# Altium integrated library 电磁阀V4.0_Project.IntLib: 65 symbols
Pins are listed as number, name and electrical type; pins without a type are passive.

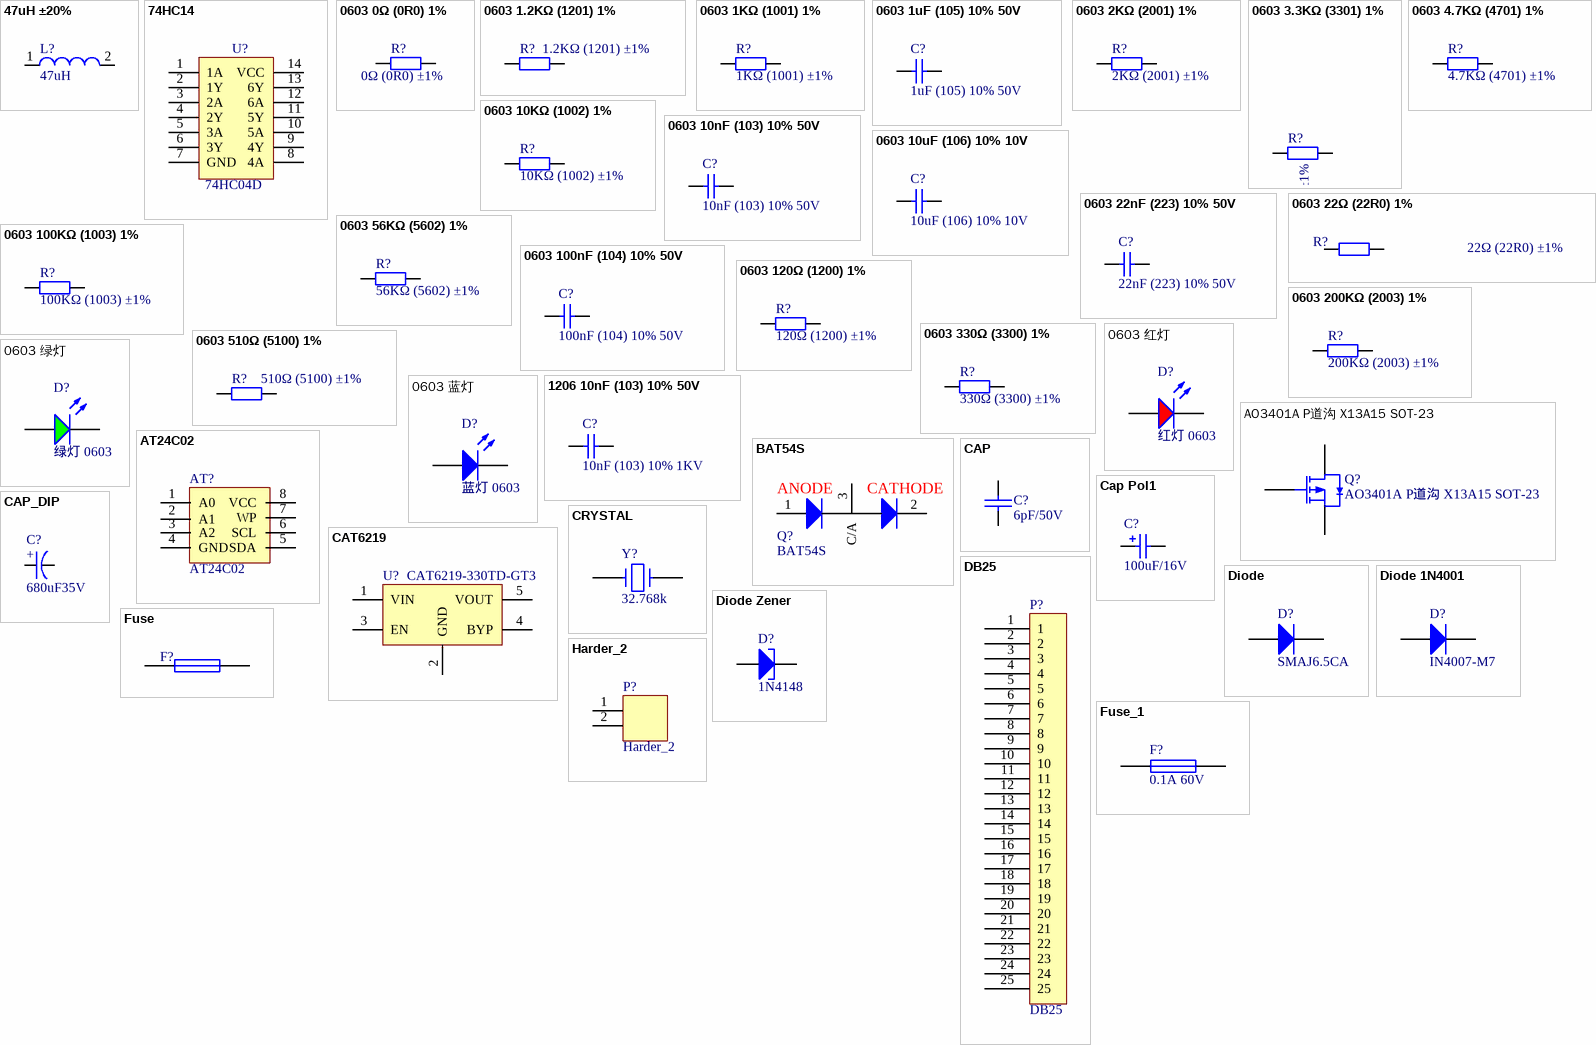
[diagram p0: symbols 47uH ±20% to Harder_2]

## 47uH ±20%
designator L?  value 47uH  (hidden comment: 47uH ±20%)
4R7功率电感; Code_IEC: 1005; Published: 8-Jun-2000; LatestRevisionDate: 29-May-2009; LatestRevisionNote: IPC-7351 Footprint Added.; PackageReference: 0402-A; Publisher: Altium Limited; PackageDescription: Chip Inductor; Code_JEITA: 0402
footprint SMD,13.8x12.6x7mm
pins: 1, 2

## 74HC14
designator U?, comment 74HC04D
6路施密特触发反相器; LatestRevisionDate: 17-Jul-2002; LatestRevisionNote: Re-released for DXP Platform.; Publisher: Altium Limited
footprint SOIC-14_150mil
pins: 1 1A, 2 1Y, 3 2A, 4 2Y, 5 3A, 6 3Y, 7 GND, 8 4A, 9 4Y, 10 5A, 11 5Y, 12 6A, 13 6Y, 14 VCC

## 0603 0Ω (0R0) 1%
designator R?, comment 0Ω (0R0) ±1%
贴片电阻; ComponentLink1Description: 供应商链接; ComponentLink1URL: http://www.szlcsc.com/product/details_21903.html; Package: 0603; Supplier: LC; SuppliersPartNumber: C21189
footprint LC-0603_R
pins: 1, 2

## 0603 1.2KΩ (1201) 1%
designator R?, comment 1.2KΩ (1201) ±1%
贴片电阻; ComponentLink1Description: 供应商链接; ComponentLink1URL: http://www.szlcsc.com/product/details_23492.html; Package: 0603; Supplier: LC; SuppliersPartNumber: C22765
footprint LC-0603_R
pins: 1, 2

## 0603 1KΩ (1001) 1%
designator R?, comment 1KΩ (1001) ±1%
贴片电阻; ComponentLink1Description: 供应商链接; ComponentLink1URL: http://www.szlcsc.com/product/details_21904.html; Package: 0603; Supplier: LC; SuppliersPartNumber: C21190
footprint LC-0603_R
pins: 1, 2

## 0603 1uF (105) 10% 50V
designator C?, comment 1uF (105) 10% 50V
贴片电容; ComponentLink1Description: 供应商链接; ComponentLink1URL: http://www.szlcsc.com/product/details_16531.html; Package: 0603; Supplier: LC; SuppliersPartNumber: C15849
footprint LC-0603_C
pins: 1, 2

## 0603 2KΩ (2001) 1%
designator R?, comment 2KΩ (2001) ±1%
贴片电阻; ComponentLink1Description: 供应商链接; ComponentLink1URL: http://www.szlcsc.com/product/details_23702.html; Package: 0603; Supplier: LC; SuppliersPartNumber: C22975
footprint LC-0603_R
pins: 1, 2

## 0603 3.3KΩ (3301) 1%
designator R?, comment 3.3KΩ (3301) ±1%
贴片电阻; ComponentLink1Description: 供应商链接; ComponentLink1URL: http://www.szlcsc.com/product/details_23705.html; Package: 0603; Supplier: LC; SuppliersPartNumber: C22978
footprint LC-0603_R
pins: 1, 2

## 0603 4.7KΩ (4701) 1%
designator R?, comment 4.7KΩ (4701) ±1%
贴片电阻; ComponentLink1Description: 供应商链接; ComponentLink1URL: http://www.szlcsc.com/product/details_23889.html; Package: 0603; Supplier: LC; SuppliersPartNumber: C23162
footprint LC-0603_R
pins: 1, 2

## 0603 10KΩ (1002) 1%
designator R?, comment 10KΩ (1002) ±1%
贴片电阻; ComponentLink1Description: 供应商链接; ComponentLink1URL: http://www.szlcsc.com/product/details_26547.html; Package: 0603; Supplier: LC; SuppliersPartNumber: C25804
footprint LC-0603_R
pins: 1, 2

## 0603 10nF (103) 10% 50V
designator C?, comment 10nF (103) 10% 50V
贴片电容; ComponentLink1Description: 供应商链接; ComponentLink1URL: http://www.szlcsc.com/product/details_58143.html; Package: 0603; Supplier: LC; SuppliersPartNumber: C57112
footprint LC-0603_C
pins: 1, 2

## 0603 10uF (106) 10% 10V
designator C?, comment 10uF (106) 10% 10V
贴片电容; ComponentLink1Description: 供应商链接; ComponentLink1URL: http://www.szlcsc.com/product/details_20411.html; Package: 0603; Supplier: LC; SuppliersPartNumber: C19702
footprint LC-0603_C
footprint 0603_C
pins: 1, 2

## 0603 22nF (223) 10% 50V
designator C?, comment 22nF (223) 10% 50V
贴片电容; ComponentLink1Description: 供应商链接; ComponentLink1URL: http://www.szlcsc.com/product/details_21834.html; Package: 0603; Supplier: LC; SuppliersPartNumber: C21122
footprint LC-0603_C
pins: 1, 2

## 0603 22Ω (22R0) 1%
designator R?, comment 22Ω (22R0) ±1%
贴片电阻; ComponentLink1Description: 供应商链接; ComponentLink1URL: http://www.szlcsc.com/product/details_24078.html; Package: 0603; Supplier: LC; SuppliersPartNumber: C23345
footprint LC-0603_R
pins: 1, 2

## 0603 56KΩ (5602) 1%
designator R?, comment 56KΩ (5602) ±1%
贴片电阻; ComponentLink1Description: 供应商链接; ComponentLink1URL: http://www.szlcsc.com/product/details_23933.html; Package: 0603; Supplier: LC; SuppliersPartNumber: C23206
footprint LC-0603_R
pins: 1, 2

## 0603 100KΩ (1003) 1%
designator R?, comment 100KΩ (1003) ±1%
贴片电阻; ComponentLink1Description: 供应商链接; ComponentLink1URL: http://www.szlcsc.com/product/details_26546.html; Package: 0603; Supplier: LC; SuppliersPartNumber: C25803
footprint 0603_R
footprint LC-0603_R
pins: 1, 2

## 0603 100nF (104) 10% 50V
designator C?, comment 100nF (104) 10% 50V
贴片电容; ComponentLink1Description: 供应商链接; ComponentLink1URL: http://www.szlcsc.com/product/details_15331.html; Package: 0603; Supplier: LC; SuppliersPartNumber: C14663
footprint LC-0603_C
pins: 1, 2

## 0603 120Ω (1200) 1%
designator R?, comment 120Ω (1200) ±1%
贴片电阻; ComponentLink1Description: 供应商链接; ComponentLink1URL: http://www.szlcsc.com/product/details_23514.html; Package: 0603; Supplier: LC; SuppliersPartNumber: C22787
footprint LC-0603_R
pins: 1, 2

## 0603 200KΩ (2003) 1%
designator R?, comment 200KΩ (2003) ±1%
贴片电阻; ComponentLink1Description: 供应商链接; ComponentLink1URL: http://www.szlcsc.com/product/details_26554.html; Package: 0603; Supplier: LC; SuppliersPartNumber: C25811
footprint LC-0603_R
pins: 1, 2

## 0603 330Ω (3300) 1%
designator R?, comment 330Ω (3300) ±1%
贴片电阻; ComponentLink1Description: 供应商链接; ComponentLink1URL: http://www.szlcsc.com/product/details_23865.html; Package: 0603; Supplier: LC; SuppliersPartNumber: C23138
footprint LC-0603_R
pins: 1, 2

## 0603 510Ω (5100) 1%
designator R?, comment 510Ω (5100) ±1%
贴片电阻; ComponentLink1Description: 供应商链接; ComponentLink1URL: http://www.szlcsc.com/product/details_23920.html; Package: 0603; Supplier: LC; SuppliersPartNumber: C23193
footprint LC-0603_R
pins: 1, 2

## 0603 红灯
designator D?, comment 红灯 0603
发光二极管; ComponentLink1Description: 供应商链接; ComponentLink1URL: http://www.szlcsc.com/product/details_2659.html; Package: 0603; Supplier: LC; SuppliersPartNumber: C2286
footprint LC-0603_LED_S1
pins: A, K

## 0603 绿灯
designator D?, comment 绿灯 0603
发光二极管; ComponentLink1Description: 供应商链接; ComponentLink1URL: http://www.szlcsc.com/product/details_73152.html; Package: 0603; Supplier: LC; SuppliersPartNumber: C72043
footprint LC-0603_LED_S1
pins: A, K

## 0603 蓝灯
designator D?, comment 蓝灯 0603
发光二极管; ComponentLink1Description: 供应商链接; ComponentLink1URL: http://www.szlcsc.com/product/details_73150.html; Package: 0603; Supplier: LC; SuppliersPartNumber: C72041
footprint LC-0603_LED_S1
pins: A, K

## 1206 10nF (103) 10% 50V
designator C?, comment 10nF (103) 10% 1KV
贴片电容; ComponentLink1Description: 供应商链接; ComponentLink1URL: http://www.szlcsc.com/product/details_2198.html; Package: 1206; Supplier: LC; SuppliersPartNumber: C1846
footprint LC-1206_C
pins: 1, 2

## AO3401A P道沟 X13A15 SOT-23
designator Q?
MOS(场效应管); ComponentLink1Description: 供应商链接; ComponentLink1URL: http://www.szlcsc.com/product/details_15801.html; Package: SOT-23; Supplier: LC; SuppliersPartNumber: C15127
footprint LC-SOT-23-3L (http://www.aosmd.com/res/packaging_information/SOT-23-3L.pdf)
pins: 1 G, 2 S, 3 D

## AT24C02
designator AT?
footprint AT24C02
pins: 1 A0, 2 A1, 3 A2, 4 GND, 5 SDA, 6 SCL, 7 WP, 8 VCC

## BAT54S
designator Q?
肖特基二极管
footprint SOT-23-3
pins: 1 ANODE, 2 CATHODE, 3 C/A (power)

## CAP
designator C?, comment 6pF/50V
贴片电容
footprint C-0603 (Chip Capacitor; Body 1.6 x 0.8 mm (LxW typ))
pins: 1, 2

## Cap Pol1
designator C?, comment 100uF/16V
直插电解电容; Published: 8-Jun-2000; LatestRevisionDate: 17-Jul-2002; LatestRevisionNote: Re-released for DXP Platform.; PackageReference: RB7.6-15; Publisher: Altium Limited; Value: 100uF/16V
footprint CAP5*X (Footprint not found)
pins: 1, 2
2 alternate drawings of the same symbol

## CAP_DIP
designator C?, comment 680uF35V
footprint Capacitor
footprint C4X7
footprint C5X8 (RB.1/.2)
footprint C6X8
footprint C8X8MM
footprint C10x16 (RB.2/.4)
footprint C13x20 (RB.2/.5)
footprint CAP_400V
footprint CAP6.6X6.6 (SMDC)
pins: 1, 2
text: +

## CAT6219
designator U?, comment CAT6219-330TD-GT3
CAT6219
footprint Model Name (Footprint not found)
footprint SOT23-5
pins: 1 VIN, 2 GND, 3 EN, 4 BYP, 5 VOUT
2 alternate drawings of the same symbol

## CRYSTAL
designator Y?, comment 32.768k
Crystal
footprint 3215_32.768K
pins: 1, 2
2 alternate drawings of the same symbol

## DB25
designator P?
DR25弯针
footprint DB25 (DR25弯针)
pins: 1, 2, 3, 4, 5, 6, 7, 8, 9, 10, 11, 12, 13, 14, 15, 16, 17, 18, 19, 20, 21, 22, 23, 24, 25

## Diode
designator D?, comment SMAJ6.5CA
通用二极管; Published: 8-Jun-2000; LatestRevisionDate: 17-Jul-2002; LatestRevisionNote: Re-released for DXP Platform.; PackageDocument: Sep-1996; PackageReference: SMC; Publisher: Altium Limited; Code_JEDEC: DO-214-AB
footprint DO-214AC
pins: 1 A, 2 K
2 alternate drawings of the same symbol

## Diode 1N4001
designator D?, comment IN4007-M7
二极管; Published: 8-Jun-2000; LatestRevisionDate: 17-Jul-2002; LatestRevisionNote: Re-released for DXP Platform.; DatasheetVersion: 1998; PackageVersion: Aug-1999; PackageReference: DO-41; Publisher: Altium Limited; PackageDescription: Diode, Axial; Body 5.2 x 2.7 mm (LxDia. max), Lead Dia. 0.86 mm (max); Code_JEDEC: DO-204-AL; ComponentLink1Description: Manufacturer Link; ComponentLink1URL: http://www.fairchildsemi.com/; ComponentLink2Description: Datasheet; ComponentLink2URL: http://www.fairchildsemi.com/ds/1N%2F1N4001.pdf
footprint DO-214AC
pins: 1 A, 2 K

## Diode Zener
designator D?, comment 1N4148
稳压二极管; Published: 8-Jun-2000; LatestRevisionDate: 17-Jul-2002; LatestRevisionNote: Re-released for DXP Platform.; PackageReference: DIODE-0.7; Publisher: Altium Limited; PackageDescription: Diode, Thru-Hole; 2 Leads; 0.7 in Pin Spacing
footprint LL-34
pins: 1, 2 1

## Fuse
designator F?, comment 32V/5A  (value not drawn)
贴片保险丝; Published: 8-Jun-2000; LatestRevisionDate: 17-Jul-2002; LatestRevisionNote: Re-released for DXP Platform.; PackageReference: PIN-W2/E2.8; Publisher: Altium Limited
footprint FUSE-1206
pins: 1, 2
2 alternate drawings of the same symbol

## Fuse_1
designator F?, comment 0.1A 60V
贴片保险丝 0.1A 60V; Published: 8-Jun-2000; LatestRevisionDate: 17-Jul-2002; LatestRevisionNote: Re-released for DXP Platform.; PackageReference: PIN-W2/E2.8; Publisher: Altium Limited
footprint R-1812
pins: 1, 2
2 alternate drawings of the same symbol

## Harder_2
designator P?
footprint 2Pin-2.54
footprint 2Pin-2.54A
footprint SOP-2
pins: 1, 2

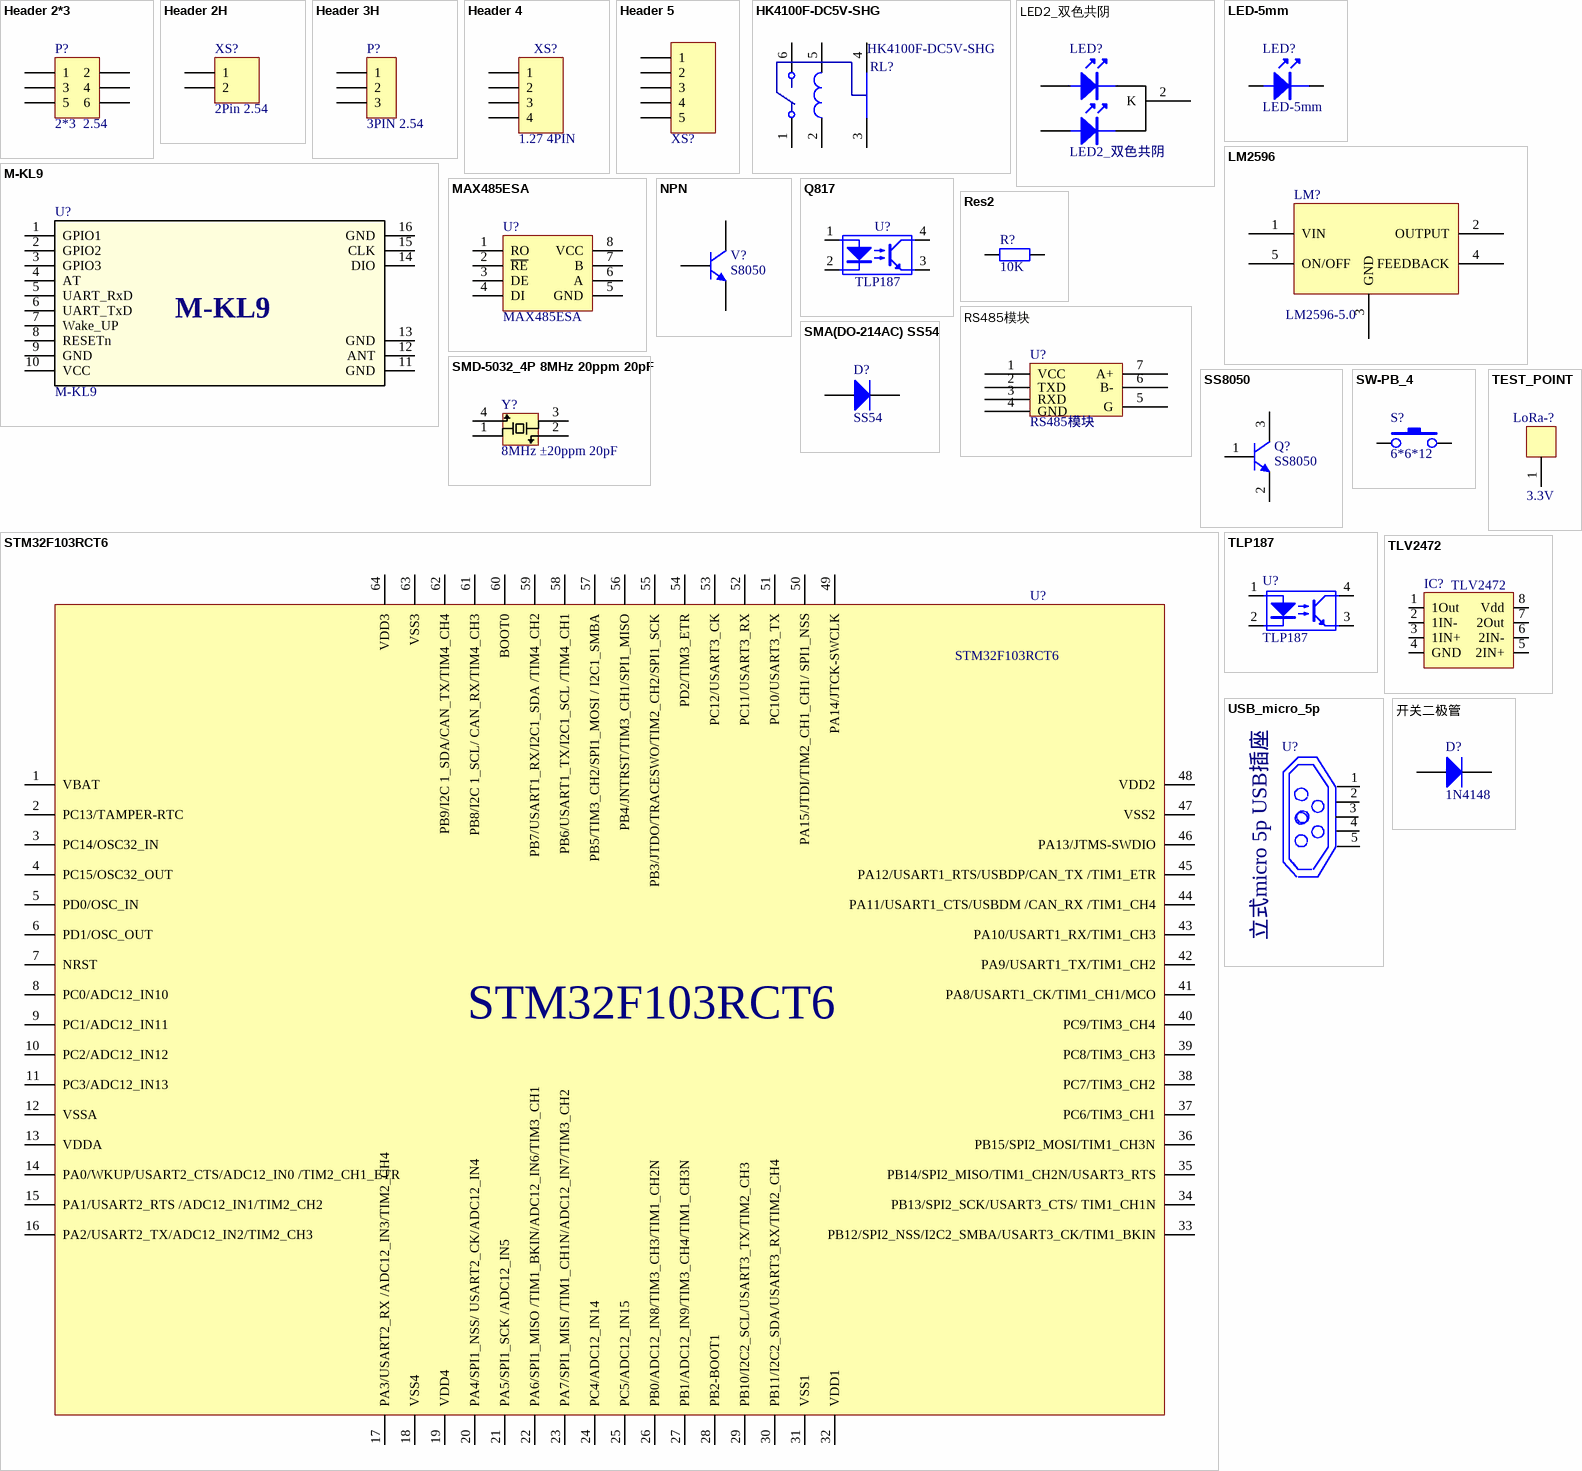
[diagram p1: symbols Header 2*3 to 开关二极管]

## Header 2*3
designator P?, comment 2*3  2.54
双排插针; LatestRevisionDate: 17-Jul-2002; LatestRevisionNote: Re-released for DXP Platform.; Publisher: Altium Limited
footprint 201S2X3
pins: 1, 2, 3, 4, 5, 6

## Header 2H
designator XS?, comment 2Pin 2.54
单排插针; LatestRevisionDate: 17-Jul-2002; LatestRevisionNote: Re-released for DXP Platform.; Publisher: Altium Limited
footprint HDR1X3 (Connector; Header; 2 Position)
footprint JXT-2
pins: 1, 2

## Header 3H
designator P?, comment 3PIN 2.54
单排插针; LatestRevisionDate: 17-Jul-2002; LatestRevisionNote: Re-released for DXP Platform.; Publisher: Altium Limited
footprint HDR1X3 (Connector; Header; 2 Position)
footprint JXT-3-l (1.27立式贴片针座)
pins: 1, 2, 3

## Header 4
designator XS?, comment 1.27 4PIN
1.27卧式贴片针座; LatestRevisionDate: 17-Jul-2002; LatestRevisionNote: Re-released for DXP Platform.; Publisher: Altium Limited
footprint JXT-4 (1.27卧式贴片针座)
pins: 1, 2, 3, 4

## Header 5
designator XS?, comment Header 2.54X4  (value not drawn)
1.27卧式贴片针座; LatestRevisionDate: 17-Jul-2002; LatestRevisionNote: Re-released for DXP Platform.; Publisher: Altium Limited
footprint JXT-5 (1.27卧式贴片针座)
pins: 1, 2, 3, 4, 5

## HK4100F-DC5V-SHG
designator RL?
继电器; LatestRevisionDate: 17-Jul-2002; LatestRevisionNote: Re-released for DXP Platform.; Publisher: Altium Limited
footprint HK4100F-DC5V-SHG (Footprint not found)
pins: 1, 2, 3, 4, 5, 6

## LED2_双色共阴
designator LED?
footprint 双色LED
pins: 1 A, 2 K, 3 A

## LED-5mm
designator LED?
发光二极管
footprint LED_5mm
pins: 1, 2

## LM2596
designator LM?, comment LM2596-5.0
footprint LC-TO-263-5
footprint LC-TO-220-5
pins: 1 VIN, 2 OUTPUT, 3 GND, 4 FEEDBACK, 5 ON/OFF

## M-KL9
designator U?
footprint M-KL9 (Footprint not found)
pins: 1 GPIO1, 2 GPIO2, 3 GPIO3, 4 AT, 5 UART_RxD, 6 UART_TxD, 7 Wake_UP, 8 RESETn, 9 GND, 10 VCC, 11 GND, 12 ANT, 13 GND, 14 DIO, 15 CLK, 16 GND

## MAX485ESA
designator U?
RS485收发芯片
footprint SOP-8_150mil
pins: 1 RO (power), 2 ~{RE} (power), 3 DE (power), 4 DI (power), 5 GND (power), 6 A (power), 7 B (power), 8 VCC (power)

## NPN
designator V?, comment S8050
NPN三极管; Published: 8-Jun-2000; LatestRevisionDate: 17-Jul-2002; LatestRevisionNote: Re-released for DXP Platform.; PackageReference: TO-226-AA; Publisher: Altium Limited; PackageDescription: TO, Flat Index; 3 In-Line, Axial Leads; Body Dia. 4.8mm; Leads 0.55 x 0.51 mm (max); Code_JEDEC: TO-226-AA
footprint SOT-23-3
pins: 1 B, 2 E, 3 C

## Q817
designator U?, comment TLP187
光藕
footprint TLP187 - duplicate
pins: 1 LED Anode, 2 LED Cathode, 3 Emitter, 4 Collector

## Res2
designator R?, comment 10K
贴片电阻; Published: 8-Jun-2000; LatestRevisionDate: 17-Jul-2002; LatestRevisionNote: Re-released for DXP Platform.; PackageReference: AXIAL-0.4; Publisher: Altium Limited; PackageDescription: Axial Device, Thru-Hole; 2 Leads; 0.4 in Pin Spacing; Value: 10K
footprint R-0603 (Chip Capacitor; Body 1.6 x 0.8 mm (LxW typ))
pins: 1, 2

## RS485模块
designator U?
footprint RS485MOD (RS485全自动收发模块)
pins: 1 VCC, 2 TXD, 3 RXD, 4 GND, 5 G, 6 B-, 7 A+

## SMA(DO-214AC) SS54
designator D?, comment SS54
二极管; ComponentLink1Description: 供应商链接; ComponentLink1URL: http://www.szlcsc.com/product/details_23178.html; Package: SMA(DO-214AC); Supplier: LC; SuppliersPartNumber: C22452
footprint LC-SMA(DO-214AC)_S1
pins: 1 A, 2 K

## SMD-5032_4P 8MHz 20ppm 20pF
designator Y?, comment 8MHz ±20ppm 20pF
贴片晶振; ComponentLink1Description: 供应商链接; ComponentLink1URL: http://www.szlcsc.com/product/details_19261.html; Package: SMD-5032_2P; Supplier: LC; SuppliersPartNumber: C18560
footprint LC-SMD-5032_4P
pins: 1 T1, 2 G, 3 T2, 4 G

## SS8050
designator Q?
NPN贴片三极管; Published: 8-Jun-2000; LatestRevisionDate: 15-Jan-2003; LatestRevisionNote: PCB Footprint 'BCY-W3/D4.7' replaced; DatasheetDocument: 1997; PackageDocument: Sep-1998; PackageReference: TO-92A; Publisher: Altium Limited; Code_JEDEC: TO-92A; ComponentLink1Description: Manufacturer Link; ComponentLink1URL: http://www.fairchildsemi.com/; ComponentLink2Description: Datasheet; ComponentLink2URL: http://www.fairchildsemi.com/ds/2N%2F2N3904.pdf
footprint SOT-23 (普通贴片三极管)
pins: 1 B, 2 E, 3 C

## STM32F103RCT6
designator U?
单片机
footprint LQFP-64_10x10x05P
pins: 1 VBAT, 2 PC13/TAMPER-RTC, 3 PC14/OSC32_IN, 4 PC15/OSC32_OUT, 5 PD0/OSC_IN, 6 PD1/OSC_OUT, 7 NRST, 8 PC0/ADC12_IN10, 9 PC1/ADC12_IN11, 10 PC2/ADC12_IN12, 11 PC3/ADC12_IN13, 12 VSSA, 13 VDDA, 14 PA0/WKUP/USART2_CTS/ADC12_IN0 /TIM2_CH1_ETR, 15 PA1/USART2_RTS /ADC12_IN1/TIM2_CH2, 16 PA2/USART2_TX/ADC12_IN2/TIM2_CH3, 17 PA3/USART2_RX /ADC12_IN3/TIM2_CH4, 18 VSS4, 19 VDD4, 20 PA4/SPI1_NSS/ USART2_CK/ADC12_IN4, 21 PA5/SPI1_SCK /ADC12_IN5, 22 PA6/SPI1_MISO /TIM1_BKIN/ADC12_IN6/TIM3_CH1, 23 PA7/SPI1_MISI /TIM1_CH1N/ADC12_IN7/TIM3_CH2, 24 PC4/ADC12_IN14, 25 PC5/ADC12_IN15, 26 PB0/ADC12_IN8/TIM3_CH3/TIM1_CH2N, 27 PB1/ADC12_IN9/TIM3_CH4/TIM1_CH3N, 28 PB2-BOOT1, 29 PB10/I2C2_SCL/USART3_TX/TIM2_CH3, 30 PB11/I2C2_SDA/USART3_RX/TIM2_CH4, 31 VSS1, 32 VDD1, 33 PB12/SPI2_NSS/I2C2_SMBA/USART3_CK/TIM1_BKIN, 34 PB13/SPI2_SCK/USART3_CTS/ TIM1_CH1N, 35 PB14/SPI2_MISO/TIM1_CH2N/USART3_RTS, 36 PB15/SPI2_MOSI/TIM1_CH3N, 37 PC6/TIM3_CH1, 38 PC7/TIM3_CH2, 39 PC8/TIM3_CH3, 40 PC9/TIM3_CH4, 41 PA8/USART1_CK/TIM1_CH1/MCO, 42 PA9/USART1_TX/TIM1_CH2, 43 PA10/USART1_RX/TIM1_CH3, 44 PA11/USART1_CTS/USBDM /CAN_RX /TIM1_CH4, 45 PA12/USART1_RTS/USBDP/CAN_TX /TIM1_ETR, 46 PA13/JTMS-SWDIO, 47 VSS2, 48 VDD2, 49 PA14/JTCK-SWCLK, 50 PA15/JTDI/TIM2_CH1_CH1/ SPI1_NSS, 51 PC10/USART3_TX, 52 PC11/USART3_RX, 53 PC12/USART3_CK, 54 PD2/TIM3_ETR, 55 PB3/JTDO/TRACESWO/TIM2_CH2/SPI1_SCK, 56 PB4/JNTRST/TIM3_CH1/SPI1_MISO, 57 PB5/TIM3_CH2/SPI1_MOSI / I2C1_SMBA, 58 PB6/USART1_TX/I2C1_SCL /TIM4_CH1, 59 PB7/USART1_RX/I2C1_SDA /TIM4_CH2, 60 BOOT0, 61 PB8/I2C 1_SCL/ CAN_RX/TIM4_CH3, 62 PB9/I2C 1_SDA/CAN_TX/TIM4_CH4, 63 VSS3, 64 VDD3

## SW-PB_4
designator S?, comment 6*6*12
侧脚带支架 微型按键; ComponentLink1Description: 侧脚带支架 微型按键; ComponentLink1URL: https://item.szlcsc.com/42081.html
footprint KEY-7.0*7.0 (侧脚按键)
pins: 1, 2

## TEST_POINT
designator LoRa-?, comment 3.3V
测试点
footprint TEST_POINT (测试点)
pins: 1

## TLP187
designator U?
光藕; ComponentLink1Description: https://item.szlcsc.com/51189.html; ComponentLink1URL: https://item.szlcsc.com/51189.html
footprint LC-SOP-4_P2.54
pins: 1 LED Anode, 2 LED Cathode, 3 Emitter, 4 Collector

## TLV2472
designator IC?
输出放大
footprint SOP8
pins: 1 1Out, 2 1IN-, 3 1IN+, 4 GND, 5 2IN+, 6 2IN-, 7 2Out, 8 Vdd

## USB_micro_5p
designator U?, comment 立式micro 5p USB插座
footprint USB插座 micro 5p (micro 5p  USB插座)
pins: 1, 2, 3, 4, 5

## 开关二极管
designator D?, comment 1N4148
开关二极管; ComponentLink1Description: 供应商链接; ComponentLink1URL: http://www.szlcsc.com/product/details_10338.html; Package: LL-34; Supplier: LC; SuppliersPartNumber: C9808
footprint SOD-123
pins: 1 A, 2 K